# Altium schematic symbol library DF2B5M4CT,L3F.SchLib: 1 symbol
Pins are listed as number, name and electrical type; pins without a type are passive.

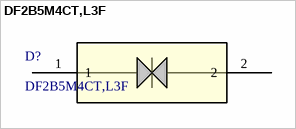
[diagram p0: symbol DF2B5M4CT,L3F]

## DF2B5M4CT,L3F
designator D?
Bidirectional TVS Diode (ESD Protection Diode), +/-3.6 V, SOD-882(CST2); Manufacturer_Name: Toshiba Electronic Devices & Storage Corp.; Copyright: Copyright (C) 2026 Ultra Librarian. All rights reserved.; Manufacturer_Part_Number: DF2B5M4CT,L3F; Datasheet: https://toshiba.semicon-storage.com/info/docget.jsp?did=141580&prodName=DF2B5M4CT; Digi-Key_Part_Number_1: DF2B5M4CTL3FTR-ND; Digi-Key_Part_Number_2: DF2B5M4CTL3FCT-ND; Digi-Key_Part_Number_3: DF2B5M4CTL3FDKR-ND; RefDes: RefDes; Type: Type
footprint SOD-882_TOS
pins: 1, 2